# Altium footprint library JST GH.PcbLib: 3 footprints
Each footprint in its own frame and in the unit in brackets; x right, y up, seen from the top. Pads: shape width x height; smd on the part's side, far side on the other; paste and mask are expansions set on the pad; w line width, h text height; cw(c..) or ccw(c..) is an arc to the next point about the centre after c.
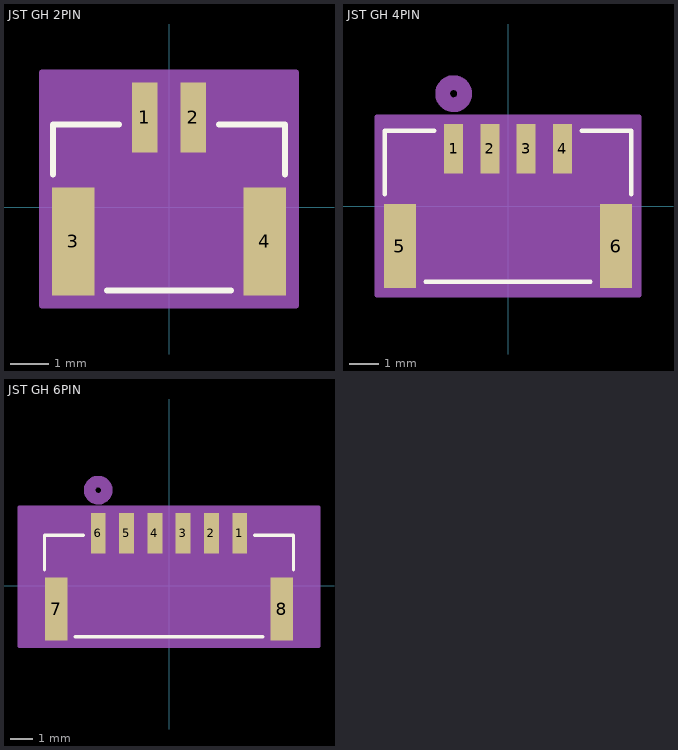
[diagram p0: the footprints below, top view; thin cyan lines are the x and y axes]

## JST GH 2PIN [mil]
pads (4):
  rect 26x71 smd paste+0 mask+0: 1(-24.61,91.5) 2(24.61,91.5)
  rect 43x110 smd paste-55 mask-55: 3(-97.44,-34.48) 4(97.44,-34.48)
Top Overlay:
  lines w6: -118,33.62 -118,84.5 -50.71,84.5 ; -62.84,-84.5 62.84,-84.5 ; 50.71,84.5 118,84.5 118,33.62
Mechanical 13:
  circle w20: c-24.61,16.5 r15
  lines w1: -113,-79.5 113,-79.5 113,79.5 -113,79.5 -113,-79.5
Mechanical 15:
  region: 128.94,137 -128.94,137 -128.94,-99.48 128.94,-99.48
  lines w6: -128.94,-99.48 -128.94,137 128.94,137 128.94,-99.48 -128.94,-99.48

## JST GH 4PIN [mil]
pads (6):
  rect 26x67 smd paste+0 mask+0: 1(-73.82,77.81) 2(-24.61,77.81) 3(24.61,77.81) 4(73.82,77.81)
  rect 43x114 smd paste-57 mask-57: 5(-146.65,-54.07) 6(146.65,-54.07)
Top Overlay:
  lines w6: -167.5,16.03 -167.5,102.5 -99.92,102.5 ; -112.05,-102.5 112.05,-102.5 ; 99.92,102.5 167.5,102.5 167.5,16.03
Mechanical 13:
  circle w20: c-73.82,152.81 r15
  lines w1: -162.5,-97.5 162.5,-97.5 162.5,97.5 -162.5,97.5 -162.5,-97.5
Mechanical 15:
  region: 178.15,121.31 -178.15,121.31 -178.15,-121.07 178.15,-121.07
  lines w6: -178.15,-121.07 -178.15,121.31 178.15,121.31 178.15,-121.07 -178.15,-121.07

## JST GH 6PIN [mil]
pads (8):
  rect 26x71 smd paste+0 mask+0: 1(123.03,91.58) 2(73.82,91.58) 3(24.61,91.58) 4(-24.61,91.58) 5(-73.82,91.58) 6(-123.03,91.58)
  rect 39x110 smd paste-55 mask-55: 7(-195.87,-40.31) 8(195.87,-40.31)
Top Overlay:
  lines w6: -216.5,27.74 -216.5,88.5 -149.13,88.5 ; -163.27,-88.5 163.27,-88.5 ; 149.13,88.5 216.5,88.5 216.5,27.74
Mechanical 13:
  circle w20: c-123.03,166.58 r15
  lines w1: -211.5,-83.5 211.5,-83.5 211.5,83.5 -211.5,83.5 -211.5,-83.5
Mechanical 15:
  region: 260.87,137.08 -260.87,137.08 -260.87,-105.31 260.87,-105.31
  lines w6: -260.87,-105.31 -260.87,137.08 260.87,137.08 260.87,-105.31 -260.87,-105.31